# EAGLE library part AD5547CRUZ (library SSv3_1)
DAC
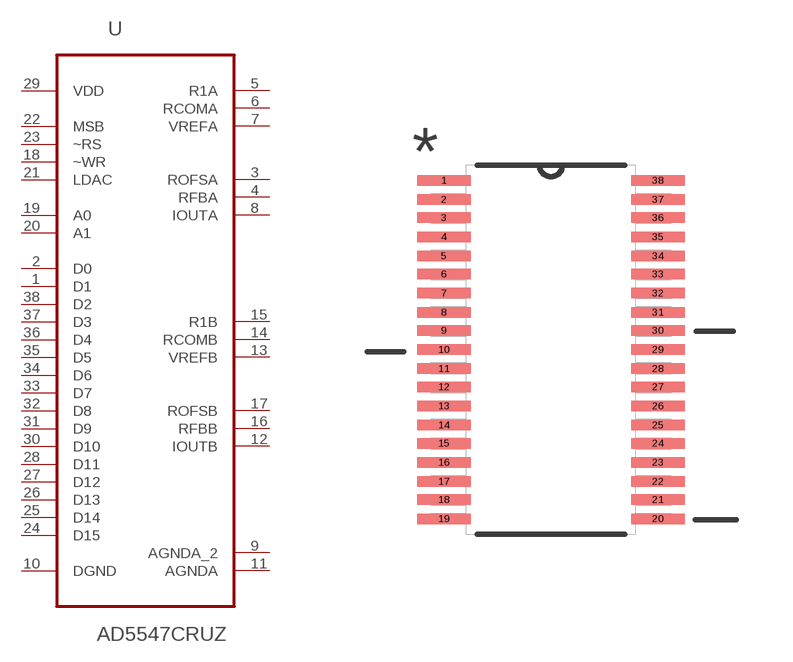
[diagram p11: symbol with the pads of SOP50P640X120-38N; footprint SOP50P640X120-38N]

Designator prefix U

## AD5547CRUZ (MPN: AD5547CRUZ; OC_FARNELL: -; OC_NEWARK: 51R0726; PACKAGE: SOP-38; SUPPLIER: Analog Devices)  [SOP50P640X120-38N]
1  D1  in
2  D0  in
3  ROFSA  pas
4  RFBA  pas
5  R1A  pas
6  RCOMA  pas
7  VREFA  in
8  IOUTA  out
9  AGNDA_2  pas
10  DGND  pas
11  AGNDA  pas
12  IOUTB  out
13  VREFB  in
14  RCOMB  pas
15  R1B  pas
16  RFBB  pas
17  ROFSB  pas
18  ~WR  in
19  A0  in
20  A1  in
21  LDAC  in
22  MSB  in
23  ~RS  in
24  D15  in
25  D14  in
26  D13  in
27  D12  in
28  D11  in
29  VDD  pwr
30  D10  in
31  D9  in
32  D8  in
33  D7  in
34  D6  in
35  D5  in
36  D4  in
37  D3  in
38  D2  in

## Footprint SOP50P640X120-38N (pad centres in mm)
smd 1.422 x 0.279: 1 -2.845,4.496; 2 -2.845,3.988; 3 -2.845,3.505; 4 -2.845,2.997; 5 -2.845,2.489; 6 -2.845,2.007; 7 -2.845,1.499; 8 -2.845,0.991; 9 -2.845,0.508; 10 -2.845,0; 11 -2.845,-0.508; 12 -2.845,-0.991; 13 -2.845,-1.499; 14 -2.845,-2.007; 15 -2.845,-2.489; 16 -2.845,-2.997; 17 -2.845,-3.505; 18 -2.845,-3.988; 19 -2.845,-4.496; 20 2.845,-4.496; 21 2.845,-3.988; 22 2.845,-3.505; 23 2.845,-2.997; 24 2.845,-2.489; 25 2.845,-2.007; 26 2.845,-1.499; 27 2.845,-0.991; 28 2.845,-0.508; 29 2.845,0; 30 2.845,0.508; 31 2.845,0.991; 32 2.845,1.499; 33 2.845,2.007; 34 2.845,2.489; 35 2.845,2.997; 36 2.845,3.505; 37 2.845,3.988; 38 2.845,4.496